# Altium footprint library RcMPPT-SCC.PcbLib: 36 footprints (part 2 of 3)
Each footprint in its own frame and in the unit in brackets; x right, y up, seen from the top. Pads: shape width x height; smd on the part's side, far side on the other; paste and mask are expansions set on the pad; w line width, h text height; cw(c..) or ccw(c..) is an arc to the next point about the centre after c.
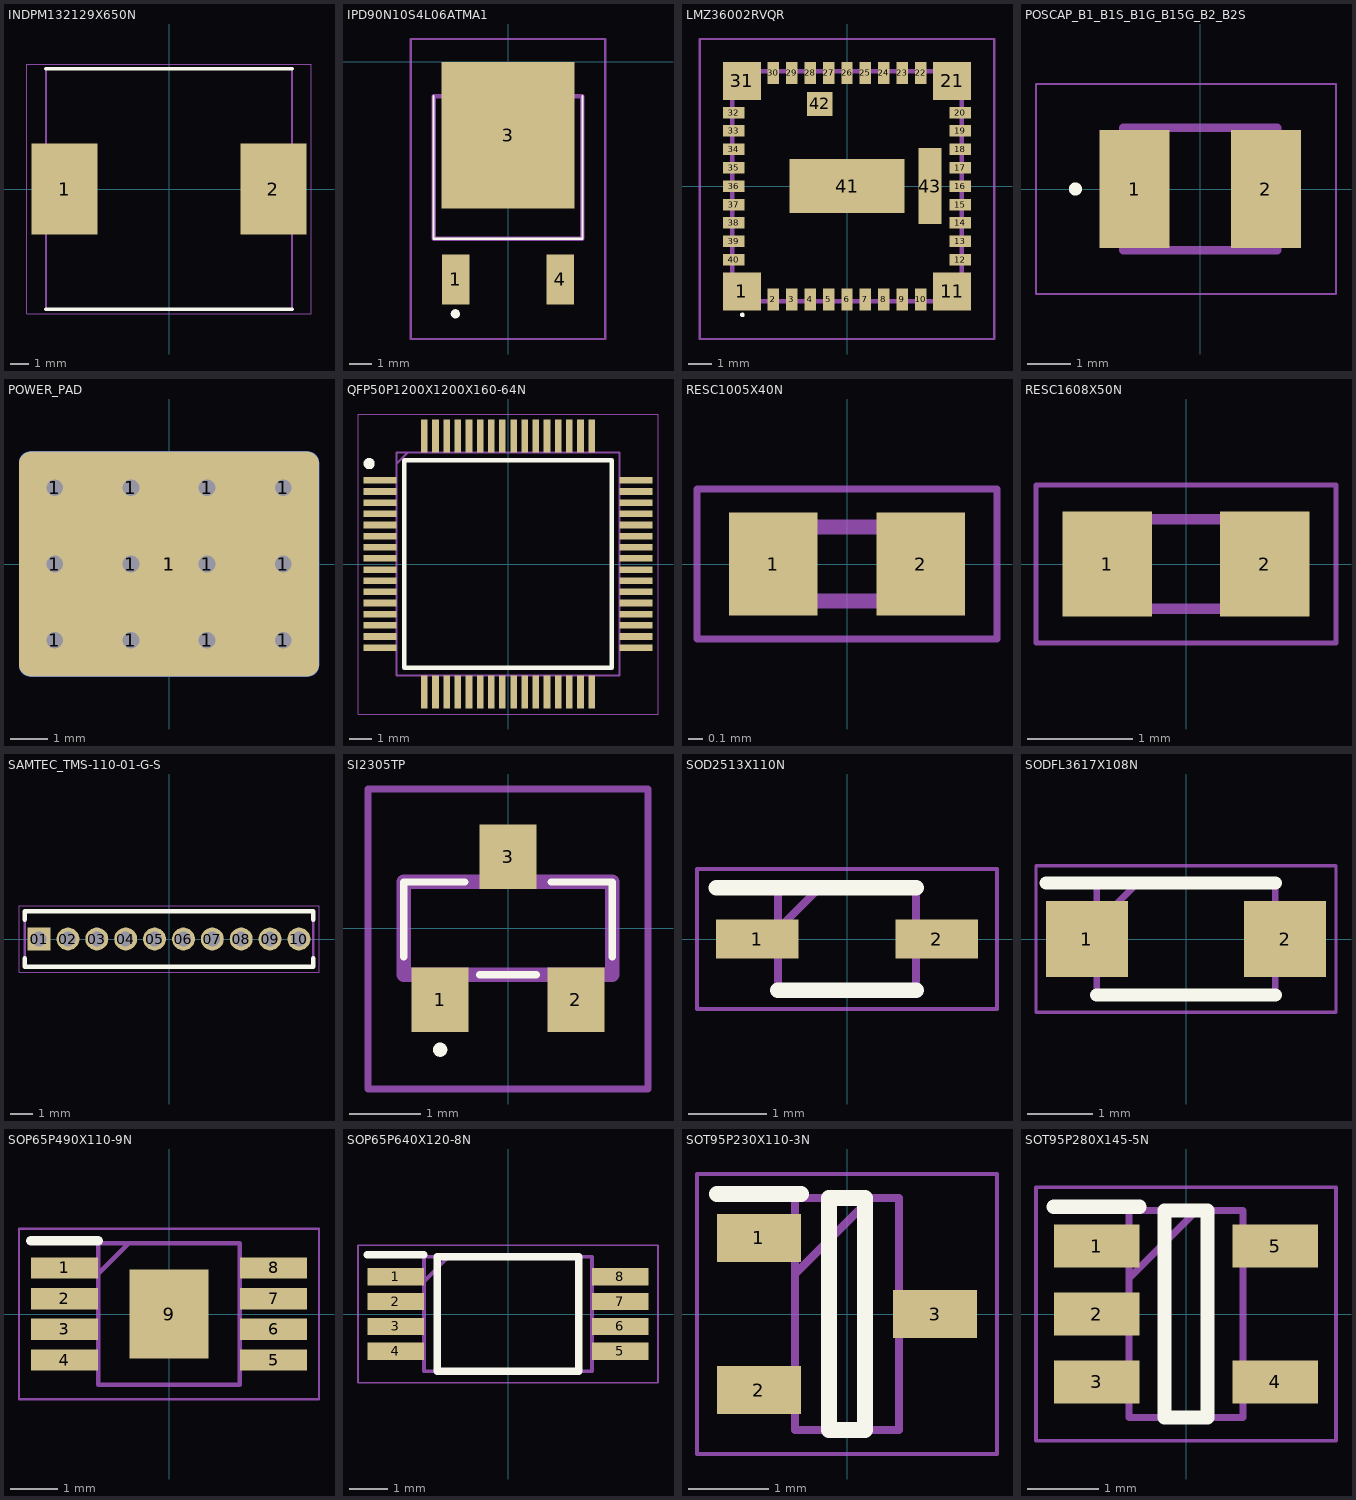
[diagram p1: the footprints below, top view; thin cyan lines are the x and y axes]

## INDPM132129X650N [mm]
pads (2):
  rect 3.55x4.9 smd: 1(-5.6,0) 2(5.6,0)
Top Overlay:
  lines w0.2: -6.6,-6.45 6.6,-6.45 ; -6.6,6.45 6.6,6.45
Mechanical 13:
  lines w0.1: -6.6,-6.45 -6.6,6.45 6.6,6.45 6.6,-6.45 -6.6,-6.45
Mechanical 15:
  lines w0.05: -7.625,-6.7 -7.625,6.7 7.625,6.7 7.625,-6.7 -7.625,-6.7
3D body "IHLP5050FDER2R2M01.stp": height 6.29, standoff 0, extent -6.683,-6.381 6.682,6.375

## IPD90N10S4L06ATMA1 [mm]
pads (3):
  rect 1.2x2.2 smd: 1(-2.28,-9.5) 4(2.28,-9.5)
  rect 5.8x6.4 smd: 3(0,-3.2)
Top Overlay:
  lines w0.1: -3.25,-1.5 -3.25,-7.72 3.25,-7.72 3.25,-1.5
  lines w0.2: -2.4,-11 cw(c-2.3,-11) -2.2,-11 cw(c-2.3,-11) -2.4,-11
Mechanical 13:
  lines w0.2: -3.25,-7.72 -3.25,-1.5 3.25,-1.5 3.25,-7.72 -3.25,-7.72
Mechanical 15:
  lines w0.1: -4.25,-12.1 -4.25,1 4.25,1 4.25,-12.1 -4.25,-12.1
3D body "TO-252AA-IRF.stp": height 2.39, standoff 0, extent -3.356,-10.033 3.356,0.381

## LMZ36002RVQR [mm]
pads (43):
  rect 1.65x1.65 smd: 1(-4.575,-4.575) 11(4.575,-4.575) 21(4.575,4.575) 31(-4.575,4.575)
  rect 0.5x0.95 smd: 2(-3.2,-4.925) 3(-2.4,-4.925) 4(-1.6,-4.925) 5(-0.8,-4.925) 6(0,-4.925) 7(0.8,-4.925) 8(1.6,-4.925) 9(2.4,-4.925) 10(3.2,-4.925) 22(3.2,4.925) 23(2.4,4.925) 24(1.6,4.925) 25(0.8,4.925) 26(0,4.925) 27(-0.8,4.925) 28(-1.6,4.925) 29(-2.4,4.925) 30(-3.2,4.925)
  rect 0.95x0.5 smd: 12(4.925,-3.2) 13(4.925,-2.4) 14(4.925,-1.6) 15(4.925,-0.8) 16(4.925,0) 17(4.925,0.8) 18(4.925,1.6) 19(4.925,2.4) 20(4.925,3.2) 32(-4.925,3.2) 33(-4.925,2.4) 34(-4.925,1.6) 35(-4.925,0.8) 36(-4.925,0) 37(-4.925,-0.8) 38(-4.925,-1.6) 39(-4.925,-2.4) 40(-4.925,-3.2)
  rect 5x2.35 smd: 41(0,0)
  rect 1.12x1.05 smd: 42(-1.187,3.575)
  rect 1x3.3 smd: 43(3.6,0)
Top Overlay:
  lines w0.1: -4.6,-5.6 cw(c-4.55,-5.6) -4.5,-5.6 cw(c-4.55,-5.6) -4.6,-5.6
Mechanical 13:
  lines w0.2: -5,-5 5,-5 5,5 -5,5 -5,-5
Mechanical 15:
  lines w0.1: -6.4,-6.65 6.4,-6.65 6.4,6.4 -6.4,6.4 -6.4,-6.65
3D body "LMZ36002RVQT.stp": height 4.2, standoff 0, extent -5,-5 5,5

## POSCAP_B1_B1S_B1G_B15G_B2_B2S [mm]
pads (2):
  rect 1.6x2.7 smd: 1(-1.5,0) 2(1.5,0)
Top Overlay:
  circle w0.2: c-2.85,0 r0.05
Mechanical 13:
  lines w0.2: -1.75,-1.4 1.75,-1.4 1.75,1.4 -1.75,1.4 -1.75,-1.4
Mechanical 15:
  lines w0.05: -3.75,-2.4 3.1,-2.4 3.1,2.4 -3.75,2.4 -3.75,-2.4
3D body "6TPG100M.stp": height 1.13, standoff 0.03, extent -1.718,-1.4 1.782,1.4

## POWER_PAD [mm]
pads (14):
  round 0.85 hole 0.45: 1(-3.048,-2.032) 1(-3.048,0) 1(-3.048,2.032) 1(-1.016,-2.032) 1(-1.016,0) 1(-1.016,2.032) 1(1.016,-2.032) 1(1.016,0) 1(1.016,2.032) 1(3.048,-2.032) 1(3.048,0) 1(3.048,2.032)
  rrect10% 8x6 smd: 1(0,0)
  rrect10% 8x6 smd far side: 1(0,0)

## QFP50P1200X1200X160-64N [mm]
pads (64):
  rect 1.475x0.298 smd: 1(-5.738,3.75) 2(-5.738,3.25) 3(-5.738,2.75) 4(-5.738,2.25) 5(-5.738,1.75) 6(-5.738,1.25) 7(-5.738,0.75) 8(-5.738,0.25) 9(-5.738,-0.25) 10(-5.738,-0.75) 11(-5.738,-1.25) 12(-5.738,-1.75) 13(-5.738,-2.25) 14(-5.738,-2.75) 15(-5.738,-3.25) 16(-5.738,-3.75) 33(5.738,-3.75) 34(5.738,-3.25) 35(5.738,-2.75) 36(5.738,-2.25) 37(5.738,-1.75) 38(5.738,-1.25) 39(5.738,-0.75) 40(5.738,-0.25) 41(5.738,0.25) 42(5.738,0.75) 43(5.738,1.25) 44(5.738,1.75) 45(5.738,2.25) 46(5.738,2.75) 47(5.738,3.25) 48(5.738,3.75)
  rect 0.298x1.475 smd: 17(-3.75,-5.738) 18(-3.25,-5.738) 19(-2.75,-5.738) 20(-2.25,-5.738) 21(-1.75,-5.738) 22(-1.25,-5.738) 23(-0.75,-5.738) 24(-0.25,-5.738) 25(0.25,-5.738) 26(0.75,-5.738) 27(1.25,-5.738) 28(1.75,-5.738) 29(2.25,-5.738) 30(2.75,-5.738) 31(3.25,-5.738) 32(3.75,-5.738) 49(3.75,5.738) 50(3.25,5.738) 51(2.75,5.738) 52(2.25,5.738) 53(1.75,5.738) 54(1.25,5.738) 55(0.75,5.738) 56(0.25,5.738) 57(-0.25,5.738) 58(-0.75,5.738) 59(-1.25,5.738) 60(-1.75,5.738) 61(-2.25,5.738) 62(-2.75,5.738) 63(-3.25,5.738) 64(-3.75,5.738)
Top Overlay:
  circle w0.25: c-6.225,4.5 r0.125
  lines w0.2: -4.65,-4.65 4.65,-4.65 4.65,4.65 -4.65,4.65 -4.65,-4.65
Mechanical 13:
  lines w0.1: -5,4.5 -4.5,5 ; -5,-5 5,-5 5,5 -5,5 -5,-5
Mechanical 15:
  lines w0.05: -6.725,-6.725 6.725,-6.725 6.725,6.725 -6.725,6.725 -6.725,-6.725
3D body "STM32G474RBT6.stp": height 1.6, standoff 0, extent -6,-6 6,6

## RESC1005X40N [mm]
pads (2):
  rect 0.6x0.7 smd: 1(-0.5,0) 2(0.5,0)
Mechanical 13:
  lines w0.1: -0.5,-0.25 -0.5,0.25 0.5,0.25 0.5,-0.25 -0.5,-0.25
Mechanical 15:
  lines w0.05: -1.016,-0.508 1.016,-0.508 1.016,0.508 -1.016,0.508 -1.016,-0.508
3D body "CRG0402F100R.stp": height 0.4, standoff 0, extent -0.5,-0.25 0.5,0.25

## RESC1608X50N [mm]
pads (2):
  rect 0.85x1 smd: 1(-0.75,0) 2(0.75,0)
Mechanical 13:
  lines w0.1: -0.788,-0.425 0.788,-0.425 0.788,0.425 -0.788,0.425 -0.788,-0.425
Mechanical 15:
  lines w0.05: -1.425,-0.75 1.425,-0.75 1.425,0.75 -1.425,0.75 -1.425,-0.75
3D body "CRCW060310R0FKEAHP.stp": height 0.5, standoff 0, extent -0.787,-0.425 0.787,0.425

## SAMTEC_TMS-110-01-G-S [mm]
pads (10):
  rect 1.01x1.01 hole 0.66: 01(-5.715,0)
  round 1.01 hole 0.66: 02(-4.445,0) 03(-3.175,0) 04(-1.905,0) 05(-0.635,0) 06(0.635,0) 07(1.905,0) 08(3.175,0) 09(4.445,0) 10(5.715,0)
Top Overlay:
  lines w0.2: -6.35,-0.855 -6.35,-1.219 6.35,-1.219 6.35,-0.855 ; -6.35,0.855 -6.35,1.219 6.35,1.219 6.35,0.855
Mechanical 13:
  lines w0.1: -6.35,-1.219 6.35,-1.219 6.35,1.219 -6.35,1.219 -6.35,-1.219
Mechanical 15:
  lines w0.05: -6.6,-1.469 -6.6,1.469 6.6,1.469 6.6,-1.469 -6.6,-1.469
3D body "TMS-110-01-G-S.stp": height 8.43, standoff -3, extent -6.35,-1.219 6.35,1.219

## SI2305TP [mm]
pads (3):
  rect 0.8x0.9 smd: 1(-0.95,-1) 2(0.95,-1) 3(0,1)
Top Overlay:
  lines w0.1: -1.46,-0.4 -1.46,0.65 -0.6,0.65 ; -0.4,-0.65 0.4,-0.65 ; 0.6,0.65 1.46,0.65 1.46,-0.4 ; -1,-1.7 ccw(c-0.95,-1.7) -0.9,-1.7 ccw(c-0.95,-1.7) -1,-1.7
Mechanical 13:
  lines w0.2: -1.46,-0.65 -1.46,0.65 1.46,0.65 1.46,-0.65 -1.46,-0.65
Mechanical 15:
  lines w0.1: -1.96,-2.25 -1.96,1.95 1.96,1.95 1.96,-2.25 -1.96,-2.25
3D body "SI2324A-TP.stp": height 0.89, standoff -0.01, extent -1.4,-1.05 1.4,1.05

## SOD2513X110N [mm]
pads (2):
  rect 1.05x0.5 smd: 1(-1.138,0) 2(1.138,0)
Top Overlay:
  lines w0.2: -1.662,0.65 0.875,0.65 ; -0.875,-0.65 0.875,-0.65
Mechanical 13:
  lines w0.1: -0.875,0.125 -0.35,0.65 ; -0.875,-0.65 -0.875,0.65 0.875,0.65 0.875,-0.65 -0.875,-0.65
Mechanical 15:
  lines w0.05: -1.905,-0.889 -1.905,0.889 1.905,0.889 1.905,-0.889 -1.905,-0.889
3D body "BAS3010A03WE6327HTSA1.stp": height 1.1, standoff 0, extent -1.25,-0.65 1.25,0.65

## SODFL3617X108N [mm]
pads (2):
  rect 1.26x1.17 smd: 1(-1.525,0) 2(1.525,0)
Top Overlay:
  lines w0.2: -2.155,0.862 1.375,0.862 ; -1.375,-0.862 1.375,-0.862
Mechanical 13:
  lines w0.1: -1.375,0.232 -0.745,0.862 ; -1.375,-0.862 1.375,-0.862 1.375,0.862 -1.375,0.862 -1.375,-0.862
Mechanical 15:
  lines w0.05: -2.305,-1.125 2.305,-1.125 2.305,1.125 -2.305,1.125 -2.305,-1.125
3D body "MBR1020VL.stp": height 1.08, standoff 0, extent -1.8,-0.863 1.8,0.863

## SOP65P490X110-9N [mm]
pads (9):
  rect 1.425x0.45 smd: 1(-2.212,0.975) 2(-2.212,0.325) 3(-2.212,-0.325) 4(-2.212,-0.975) 5(2.212,-0.975) 6(2.212,-0.325) 7(2.212,0.325) 8(2.212,0.975)
  rect 1.68x1.88 smd: 9(0,0)
Top Overlay:
  lines w0.2: -2.925,1.55 -1.5,1.55
Mechanical 13:
  lines w0.1: -1.5,0.85 -0.85,1.5 ; -1.5,-1.5 -1.5,1.5 1.5,1.5 1.5,-1.5 -1.5,-1.5
Mechanical 15:
  lines w0.05: -3.175,-1.801 -3.175,1.801 3.175,1.801 3.175,-1.801 -3.175,-1.801
3D body "LTC4444EMS8E-5#PBF.stp": height 1.1, standoff 0, extent -2.45,-1.5 2.45,1.5

## SOP65P640X120-8N [mm]
pads (8):
  rect 1.475x0.45 smd: 1(-2.938,0.975) 2(-2.938,0.325) 3(-2.938,-0.325) 4(-2.938,-0.975) 5(2.938,-0.975) 6(2.938,-0.325) 7(2.938,0.325) 8(2.938,0.975)
Top Overlay:
  lines w0.2: -3.675,1.55 -2.2,1.55 ; -1.85,-1.5 -1.85,1.5 1.85,1.5 1.85,-1.5 -1.85,-1.5
Mechanical 13:
  lines w0.1: -2.2,0.85 -1.55,1.5 ; -2.2,-1.5 -2.2,1.5 2.2,1.5 2.2,-1.5 -2.2,-1.5
Mechanical 15:
  lines w0.05: -3.925,-1.8 -3.925,1.8 3.925,1.8 3.925,-1.8 -3.925,-1.8
3D body "INA240A4PWR.stp": height 1.08, standoff -0.02, extent -3.21,-1.5 3.21,1.5

## SOT95P230X110-3N [mm]
pads (3):
  rect 1.05x0.6 smd: 1(-1.1,0.95) 2(-1.1,-0.95) 3(1.1,0)
Top Overlay:
  lines w0.2: -1.625,1.5 -0.575,1.5 ; -0.225,-1.45 -0.225,1.45 0.225,1.45 0.225,-1.45 -0.225,-1.45
Mechanical 13:
  lines w0.1: -0.65,0.5 0.3,1.45 ; -0.65,-1.45 -0.65,1.45 0.65,1.45 0.65,-1.45 -0.65,-1.45
Mechanical 15:
  lines w0.05: -1.875,-1.75 -1.875,1.75 1.875,1.75 1.875,-1.75 -1.875,-1.75
3D body "BC847A,235.stp": height 1.1, standoff 0, extent -1.15,-1.45 1.15,1.45

## SOT95P280X145-5N [mm]
pads (5):
  rect 1.2x0.6 smd: 1(-1.25,0.95) 2(-1.25,0) 3(-1.25,-0.95) 4(1.25,-0.95) 5(1.25,0.95)
Top Overlay:
  lines w0.2: -1.85,1.5 -0.65,1.5 ; -0.3,-1.45 -0.3,1.45 0.3,1.45 0.3,-1.45 -0.3,-1.45
Mechanical 13:
  lines w0.1: -0.8,0.5 0.15,1.45 ; -0.8,-1.45 -0.8,1.45 0.8,1.45 0.8,-1.45 -0.8,-1.45
Mechanical 15:
  lines w0.05: -2.1,-1.775 -2.1,1.775 2.1,1.775 2.1,-1.775 -2.1,-1.775
3D body "LMR62014XMF_NOPB.stp": height 1.2, standoff 0, extent -1.4,-1.45 1.4,1.45